# Altium footprint library PcbLib1.PcbLib: 5 footprints
Each footprint in its own frame and in the unit in brackets; x right, y up, seen from the top. Pads: shape width x height; smd on the part's side, far side on the other; paste and mask are expansions set on the pad; w line width, h text height; cw(c..) or ccw(c..) is an arc to the next point about the centre after c.
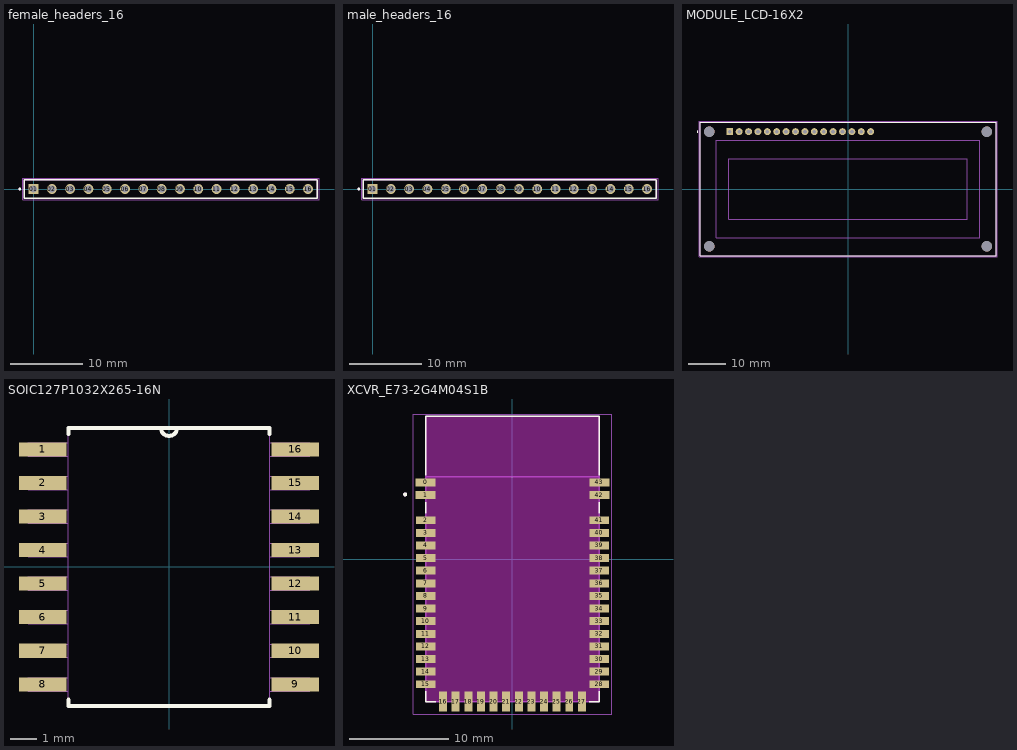
[diagram p0: the footprints below, top view; thin cyan lines are the x and y axes]

## female_headers_16 [mm]
pads (16):
  rect 1.37x1.37 hole 1.02: 01(0,0)
  round 1.37 hole 1.02: 02(2.54,0) 03(5.08,0) 04(7.62,0) 05(10.16,0) 06(12.7,0) 07(15.24,0) 08(17.78,0) 09(20.32,0) 10(22.86,0) 11(25.4,0) 12(27.94,0) 13(30.48,0) 14(33.02,0) 15(35.56,0) 16(38.1,0)
Top Overlay:
  circle w0.2: c-1.92,0 r0.1
  lines w0.2: -1.27,-1.27 -1.27,1.27 39.37,1.27 39.37,-1.27 -1.27,-1.27
Mechanical 13:
  circle w0.2: c-1.92,0 r0.1
  lines w0.1: -1.27,-1.27 -1.27,1.27 39.37,1.27 39.37,-1.27 -1.27,-1.27
Mechanical 15:
  lines w0.05: -1.52,-1.52 -1.52,1.52 39.62,1.52 39.62,-1.52 -1.52,-1.52
3D body "Female_Header_1x16_P2.54_H8.5_straight.step": height 8.5, standoff -3, extent -1.143,-1.397 39.497,1.103

## male_headers_16 [mm]
pads (16):
  rect 1.37x1.37 hole 1.02: 01(0,0)
  round 1.37 hole 1.02: 02(2.54,0) 03(5.08,0) 04(7.62,0) 05(10.16,0) 06(12.7,0) 07(15.24,0) 08(17.78,0) 09(20.32,0) 10(22.86,0) 11(25.4,0) 12(27.94,0) 13(30.48,0) 14(33.02,0) 15(35.56,0) 16(38.1,0)
Top Overlay:
  circle w0.2: c-1.92,0 r0.1
  lines w0.2: -1.27,-1.27 39.37,-1.27 39.37,1.27 -1.27,1.27 -1.27,-1.27
Mechanical 13:
  circle w0.2: c-1.92,0 r0.1
  lines w0.1: -1.27,-1.27 39.37,-1.27 39.37,1.27 -1.27,1.27 -1.27,-1.27
Mechanical 15:
  lines w0.05: -1.52,-1.52 39.62,-1.52 39.62,1.52 -1.52,1.52 -1.52,-1.52
3D body "TSW-116-23-S-S-LL.stp": height 8.38, standoff -2.92, extent -1.397,-1.27 39.37,1.27

## MODULE_LCD-16X2 [mm]
height 14
pads (20):
  rect 1.88x1.88 / inner round 1.88 / far side rect 1.88x1.88 hole 1.016: 1(-32,15.5)
  round 1.88 hole 1.016: 2(-29.46,15.5) 3(-26.92,15.5) 4(-24.38,15.5) 5(-21.84,15.5) 6(-19.3,15.5) 7(-16.76,15.5) 8(-14.22,15.5) 9(-11.68,15.5) 10(-9.14,15.5) 11(-6.6,15.5) 12(-4.06,15.5) 13(-1.52,15.5) 14(1.02,15.5) 15(3.56,15.5) 16(6.1,15.5)
  round 2.8 hole 2.8 unplated: ""(-37.5,-15.5) ""(-37.5,15.5) ""(37.5,-15.5) ""(37.5,15.5)
Top Overlay:
  circle w0.2: c-40.75,15.5 r0.1
  lines w0.127: -40,-18 40,-18 40,18 -40,18 -40,-18
Mechanical 13:
  circle w0.2: c-40.75,15.5 r0.1
  lines w0.127: -40,-18 40,-18 40,18 -40,18 -40,-18 ; -35.65,-13.15 35.65,-13.15 35.65,13.15 -35.65,13.15 -35.65,-13.15 ; -32.25,-8.2 32.25,-8.2 32.25,8.2 -32.25,8.2 -32.25,-8.2
Mechanical 15:
  lines w0.05: -40.25,-18.25 -40.25,18.25 40.25,18.25 40.25,-18.25 -40.25,-18.25
3D body "step_temp.STEP": height 10.2, standoff -3, extent -40.757,-18.034 39.243,17.966

## SOIC127P1032X265-16N [mil]
pads (16):
  rect 71x21 smd: 1(-188,175) 2(-188,125) 3(-188,75) 4(-188,25) 5(-188,-25) 6(-188,-75) 7(-188,-125) 8(-188,-175) 9(188,-175) 10(188,-125) 11(188,-75) 12(188,-25) 13(188,25) 14(188,75) 15(188,125) 16(188,175)
Top Overlay:
  lines w6: -150,-198 -150,-207 150,-207 150,-198 ; -150,198 -150,207 -12,207 ; 150,198 150,207 12,207 ; -12,207 ccw(c0,207) 12,207 ; -12,207 12,207
Mechanical 13:
  lines w0: -12,207 ccw(c0,207) 12,207 ; -12,207 12,207 ; -12,207 -150,207 -150,-207 150,-207 150,207 12,207 ; -210,-185 -210,-165 -150,-165 -150,-185 -210,-185 ; -210,-135 -210,-115 -150,-115 -150,-135 -210,-135 ; -210,-85 -210,-65 -150,-65 -150,-85 -210,-85 ; -210,-35 -210,-15 -150,-15 -150,-35 -210,-35 ; -210,15 -210,35 -150,35 -150,15 -210,15 ; -210,65 -210,85 -150,85 -150,65 -210,65 ; -210,115 -210,135 -150,135 -150,115 -210,115 ; -210,165 -210,185 -150,185 -150,165 -210,165 ; 150,-185 150,-165 210,-165 210,-185 150,-185 ; 150,-135 150,-115 210,-115 210,-135 150,-135 ; 150,-85 150,-65 210,-65 210,-85 150,-85 ; 150,-35 150,-15 210,-15 210,-35 150,-35 ; 150,15 150,35 210,35 210,15 150,15 ; 150,65 150,85 210,85 210,65 150,65 ; 150,115 150,135 210,135 210,115 150,115 ; 150,165 150,185 210,185 210,165 150,165
3D body "step_temp.STEP": height 104.33, standoff 0, extent -203.25,-202.76 203.25,202.76

## XCVR_E73-2G4M04S1B [mm]
pads (44):
  rect 2x0.8 smd: 0(-8.75,7.715) 1(-8.75,6.445) 2(-8.73,3.905) 3(-8.73,2.635) 4(-8.73,1.365) 5(-8.73,0.095) 6(-8.73,-1.175) 7(-8.73,-2.445) 8(-8.73,-3.715) 9(-8.73,-4.985) 10(-8.73,-6.255) 11(-8.73,-7.525) 12(-8.73,-8.795) 13(-8.73,-10.065) 14(-8.73,-11.335) 15(-8.73,-12.605) 28(8.73,-12.605) 29(8.73,-11.335) 30(8.73,-10.065) 31(8.73,-8.795) 32(8.73,-7.525) 33(8.73,-6.255) 34(8.73,-4.985) 35(8.73,-3.715) 36(8.73,-2.445) 37(8.73,-1.175) 38(8.73,0.095) 39(8.73,1.365) 40(8.73,2.635) 41(8.73,3.905) 42(8.75,6.445) 43(8.75,7.715)
  rect 0.8x2 smd: 16(-6.985,-14.35) 17(-5.715,-14.35) 18(-4.445,-14.35) 19(-3.175,-14.35) 20(-1.905,-14.35) 21(-0.635,-14.35) 22(0.635,-14.35) 23(1.905,-14.35) 24(3.175,-14.35) 25(4.445,-14.35) 26(5.715,-14.35) 27(6.985,-14.35)
Top Overlay:
  circle w0.2: c-10.8,6.5 r0.1
  lines w0.127: -8.75,-13.325 -8.75,-14.35 -7.705,-14.35 ; -8.75,4.625 -8.75,5.725 ; -8.75,8.435 -8.75,14.35 8.75,14.35 8.75,8.435 ; 7.705,-14.35 8.75,-14.35 8.75,-13.325 ; 8.75,4.625 8.75,5.725
Keep-Out Layer:
  region: 8.75,-14.35 -8.75,-14.35 -8.75,14.35 8.75,14.35
  region: 8.75,8.115 7.75,8.115 7.75,6.045 8.75,6.045 8.75,4.305 7.73,4.305 7.73,-13.3 -7.73,-13.3 -7.73,4.305 -8.75,4.305 -8.75,6.045 -7.75,6.045 -7.75,8.1 -8.75,8.1 -8.75,14.35 8.75,14.35
Mechanical 13:
  circle w0.2: c-10.8,6.5 r0.1
  lines w0.127: -8.75,8.288 8.75,8.288 ; -8.75,8.288 -8.75,-14.35 8.75,-14.35 8.75,8.288 ; -8.75,8.288 -8.75,14.35 8.75,14.35 8.75,8.288
  text "under the module" at -5,-3 h0.64
  text "Avoid traces in Bottom Layer" at -5,-2 h0.64
Mechanical 15:
  lines w0.05: -10,-15.6 10,-15.6 10,14.6 -10,14.6 -10,-15.6